# Altium integrated library WD Peripheral DMA Controller.IntLib: 6 symbols
Pins are listed as number, name and electrical type; pins without a type are passive.

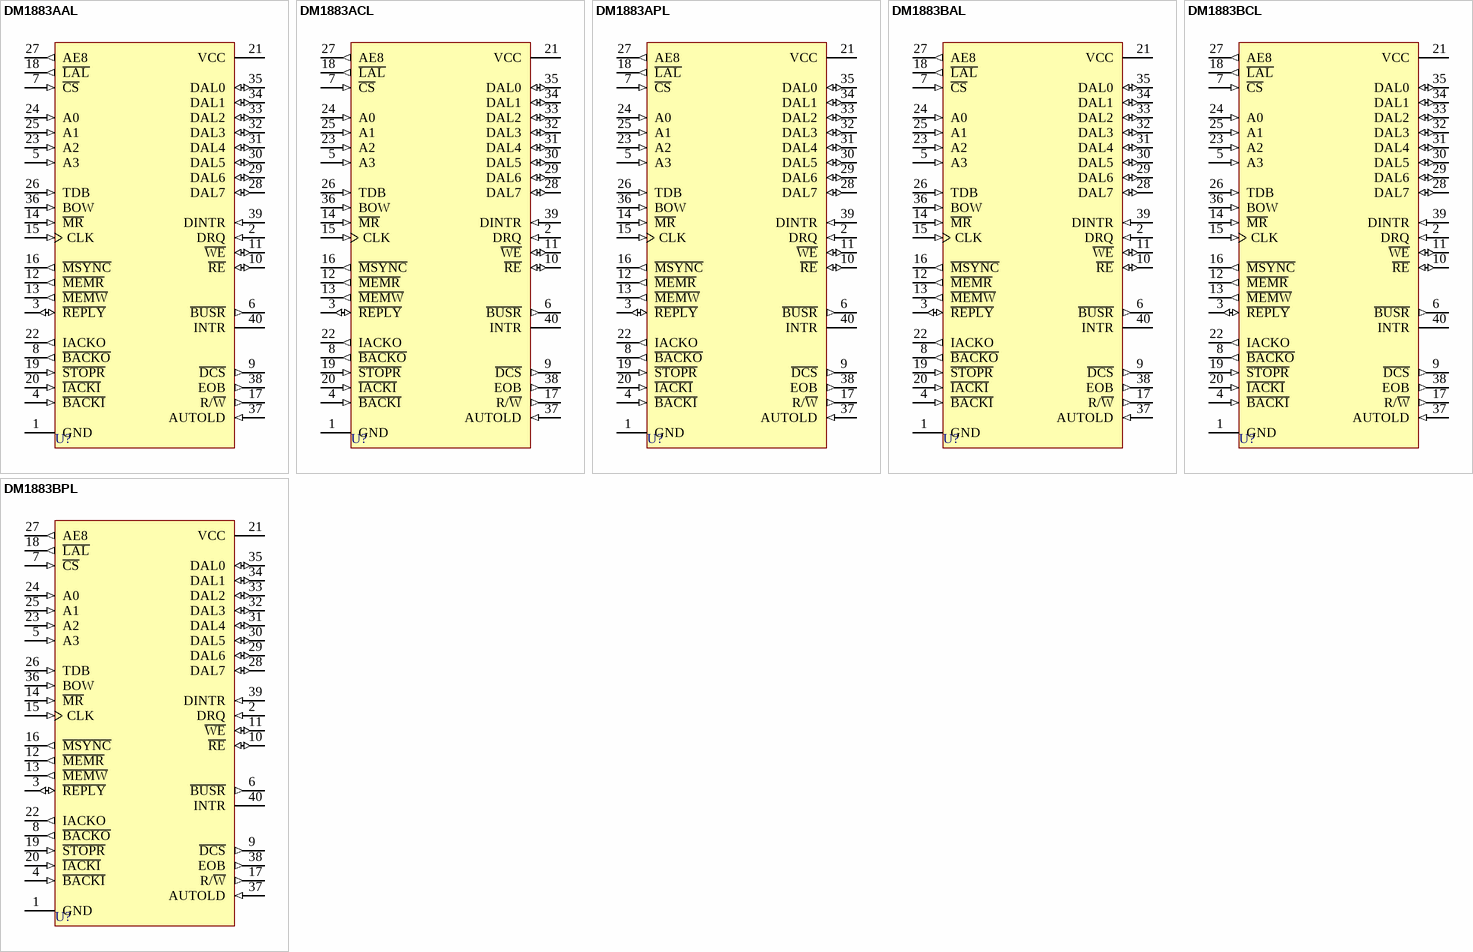
[diagram p0: symbols DM1883AAL to DM1883BPL]

## DM1883AAL
designator U?
Direct Memory Access Controller; PackageDocument: 1984; Published: 8-Jun-2000; LatestRevisionDate: 4-Mar-2005; LatestRevisionNote: Stylized 3D Model Added.; DatasheetDocument: 1984; PackageReference: AL40; Publisher: Altium Limited; ComponentLink1Description: Manufacturer Link; ComponentLink1URL: http://www.wdc.com/
footprint AL40 (DIP; 40 Leads; Row Spacing 15.24 mm; Pitch 2.54 mm)
3D model AL40 (DIP; 40 Leads; Row Spacing 15.24 mm; Pitch 2.54 mm)
pins: 1 GND (power), 2 DRQ (in), 3 ~{REPLY} (io), 4 ~{BACKI} (in), 5 A3 (in), 6 ~{BUSR} (out), 7 ~{CS} (in), 8 ~{BACKO} (out), 9 ~{DCS} (out), 10 ~{RE} (io), 11 ~{WE} (io), 12 ~{MEMR} (out), 13 ~{MEMW} (out), 14 ~{MR} (in), 15 CLK (in), 16 ~{MSYNC} (out), 17 R/~{W} (out), 18 ~{LAL} (out), 19 ~{STOPR} (in), 20 ~{IACKI} (in), 21 VCC (power), 22 IACKO (out), 23 A2 (in), 24 A0 (in), 25 A1 (in), 26 TDB (in), 27 AE8 (out), 28 DAL7 (io), 29 DAL6 (io), 30 DAL5 (io), 31 DAL4 (io), 32 DAL3 (io), 33 DAL2 (io), 34 DAL1 (io), 35 DAL0 (io), 36 BOW (in), 37 AUTOLD (in), 38 EOB (out), 39 DINTR (in), 40 INTR (oc)

## DM1883ACL
designator U?
Direct Memory Access Controller; PackageDocument: 1984; Published: 8-Jun-2000; LatestRevisionDate: 4-Mar-2005; LatestRevisionNote: Stylized 3D Model Added.; DatasheetDocument: 1984; PackageReference: CL40; Publisher: Altium Limited; ComponentLink1Description: Manufacturer Link; ComponentLink1URL: http://www.wdc.com/
footprint CL40 (DIP; 40 Leads; Row Spacing 15.24 mm; Pitch 2.54 mm)
3D model PL40 (DIP; 40 Leads; Row Spacing 15.24 mm; Pitch 2.54 mm)
pins: 1 GND (power), 2 DRQ (in), 3 ~{REPLY} (io), 4 ~{BACKI} (in), 5 A3 (in), 6 ~{BUSR} (out), 7 ~{CS} (in), 8 ~{BACKO} (out), 9 ~{DCS} (out), 10 ~{RE} (io), 11 ~{WE} (io), 12 ~{MEMR} (out), 13 ~{MEMW} (out), 14 ~{MR} (in), 15 CLK (in), 16 ~{MSYNC} (out), 17 R/~{W} (out), 18 ~{LAL} (out), 19 ~{STOPR} (in), 20 ~{IACKI} (in), 21 VCC (power), 22 IACKO (out), 23 A2 (in), 24 A0 (in), 25 A1 (in), 26 TDB (in), 27 AE8 (out), 28 DAL7 (io), 29 DAL6 (io), 30 DAL5 (io), 31 DAL4 (io), 32 DAL3 (io), 33 DAL2 (io), 34 DAL1 (io), 35 DAL0 (io), 36 BOW (in), 37 AUTOLD (in), 38 EOB (out), 39 DINTR (in), 40 INTR (oc)

## DM1883APL
designator U?
Direct Memory Access Controller; PackageDocument: 1984; Published: 8-Jun-2000; LatestRevisionDate: 4-Mar-2005; LatestRevisionNote: Stylized 3D Model Added.; DatasheetDocument: 1984; PackageReference: PL40; Publisher: Altium Limited; ComponentLink1Description: Manufacturer Link; ComponentLink1URL: http://www.wdc.com/
footprint PL40 (DIP; 40 Leads; Row Spacing 15.24 mm; Pitch 2.54 mm)
3D model PL40 (DIP; 40 Leads; Row Spacing 15.24 mm; Pitch 2.54 mm)
pins: 1 GND (power), 2 DRQ (in), 3 ~{REPLY} (io), 4 ~{BACKI} (in), 5 A3 (in), 6 ~{BUSR} (out), 7 ~{CS} (in), 8 ~{BACKO} (out), 9 ~{DCS} (out), 10 ~{RE} (io), 11 ~{WE} (io), 12 ~{MEMR} (out), 13 ~{MEMW} (out), 14 ~{MR} (in), 15 CLK (in), 16 ~{MSYNC} (out), 17 R/~{W} (out), 18 ~{LAL} (out), 19 ~{STOPR} (in), 20 ~{IACKI} (in), 21 VCC (power), 22 IACKO (out), 23 A2 (in), 24 A0 (in), 25 A1 (in), 26 TDB (in), 27 AE8 (out), 28 DAL7 (io), 29 DAL6 (io), 30 DAL5 (io), 31 DAL4 (io), 32 DAL3 (io), 33 DAL2 (io), 34 DAL1 (io), 35 DAL0 (io), 36 BOW (in), 37 AUTOLD (in), 38 EOB (out), 39 DINTR (in), 40 INTR (oc)

## DM1883BAL
designator U?
Direct Memory Access Controller; PackageDocument: 1984; Published: 8-Jun-2000; LatestRevisionDate: 4-Mar-2005; LatestRevisionNote: Stylized 3D Model Added.; DatasheetDocument: 1984; PackageReference: AL40; Publisher: Altium Limited; ComponentLink1Description: Manufacturer Link; ComponentLink1URL: http://www.wdc.com/
footprint AL40 (DIP; 40 Leads; Row Spacing 15.24 mm; Pitch 2.54 mm)
3D model AL40 (DIP; 40 Leads; Row Spacing 15.24 mm; Pitch 2.54 mm)
pins: 1 GND (power), 2 DRQ (in), 3 ~{REPLY} (io), 4 ~{BACKI} (in), 5 A3 (in), 6 ~{BUSR} (out), 7 ~{CS} (in), 8 ~{BACKO} (out), 9 ~{DCS} (out), 10 ~{RE} (io), 11 ~{WE} (io), 12 ~{MEMR} (out), 13 ~{MEMW} (out), 14 ~{MR} (in), 15 CLK (in), 16 ~{MSYNC} (out), 17 R/~{W} (out), 18 ~{LAL} (out), 19 ~{STOPR} (in), 20 ~{IACKI} (in), 21 VCC (power), 22 IACKO (out), 23 A2 (in), 24 A0 (in), 25 A1 (in), 26 TDB (in), 27 AE8 (out), 28 DAL7 (io), 29 DAL6 (io), 30 DAL5 (io), 31 DAL4 (io), 32 DAL3 (io), 33 DAL2 (io), 34 DAL1 (io), 35 DAL0 (io), 36 BOW (in), 37 AUTOLD (in), 38 EOB (out), 39 DINTR (in), 40 INTR (oc)

## DM1883BCL
designator U?
Direct Memory Access Controller; PackageDocument: 1984; Published: 8-Jun-2000; LatestRevisionDate: 4-Mar-2005; LatestRevisionNote: Stylized 3D Model Added.; DatasheetDocument: 1984; PackageReference: CL40; Publisher: Altium Limited; ComponentLink1Description: Manufacturer Link; ComponentLink1URL: http://www.wdc.com/
footprint CL40 (DIP; 40 Leads; Row Spacing 15.24 mm; Pitch 2.54 mm)
3D model PL40 (DIP; 40 Leads; Row Spacing 15.24 mm; Pitch 2.54 mm)
pins: 1 GND (power), 2 DRQ (in), 3 ~{REPLY} (io), 4 ~{BACKI} (in), 5 A3 (in), 6 ~{BUSR} (out), 7 ~{CS} (in), 8 ~{BACKO} (out), 9 ~{DCS} (out), 10 ~{RE} (io), 11 ~{WE} (io), 12 ~{MEMR} (out), 13 ~{MEMW} (out), 14 ~{MR} (in), 15 CLK (in), 16 ~{MSYNC} (out), 17 R/~{W} (out), 18 ~{LAL} (out), 19 ~{STOPR} (in), 20 ~{IACKI} (in), 21 VCC (power), 22 IACKO (out), 23 A2 (in), 24 A0 (in), 25 A1 (in), 26 TDB (in), 27 AE8 (out), 28 DAL7 (io), 29 DAL6 (io), 30 DAL5 (io), 31 DAL4 (io), 32 DAL3 (io), 33 DAL2 (io), 34 DAL1 (io), 35 DAL0 (io), 36 BOW (in), 37 AUTOLD (in), 38 EOB (out), 39 DINTR (in), 40 INTR (oc)

## DM1883BPL
designator U?
Direct Memory Access Controller; PackageDocument: 1984; Published: 8-Jun-2000; LatestRevisionDate: 4-Mar-2005; LatestRevisionNote: Stylized 3D Model Added.; DatasheetDocument: 1984; PackageReference: PL40; Publisher: Altium Limited; ComponentLink1Description: Manufacturer Link; ComponentLink1URL: http://www.wdc.com/
footprint PL40 (DIP; 40 Leads; Row Spacing 15.24 mm; Pitch 2.54 mm)
3D model PL40 (DIP; 40 Leads; Row Spacing 15.24 mm; Pitch 2.54 mm)
pins: 1 GND (power), 2 DRQ (in), 3 ~{REPLY} (io), 4 ~{BACKI} (in), 5 A3 (in), 6 ~{BUSR} (out), 7 ~{CS} (in), 8 ~{BACKO} (out), 9 ~{DCS} (out), 10 ~{RE} (io), 11 ~{WE} (io), 12 ~{MEMR} (out), 13 ~{MEMW} (out), 14 ~{MR} (in), 15 CLK (in), 16 ~{MSYNC} (out), 17 R/~{W} (out), 18 ~{LAL} (out), 19 ~{STOPR} (in), 20 ~{IACKI} (in), 21 VCC (power), 22 IACKO (out), 23 A2 (in), 24 A0 (in), 25 A1 (in), 26 TDB (in), 27 AE8 (out), 28 DAL7 (io), 29 DAL6 (io), 30 DAL5 (io), 31 DAL4 (io), 32 DAL3 (io), 33 DAL2 (io), 34 DAL1 (io), 35 DAL0 (io), 36 BOW (in), 37 AUTOLD (in), 38 EOB (out), 39 DINTR (in), 40 INTR (oc)